# Altium footprint library 贴片元器件.PCBLIB: 208 footprints (part 2 of 13)
Each footprint in its own frame and in the unit in brackets; x right, y up, seen from the top. Pads: shape width x height; smd on the part's side, far side on the other; paste and mask are expansions set on the pad; w line width, h text height; cw(c..) or ccw(c..) is an arc to the next point about the centre after c.
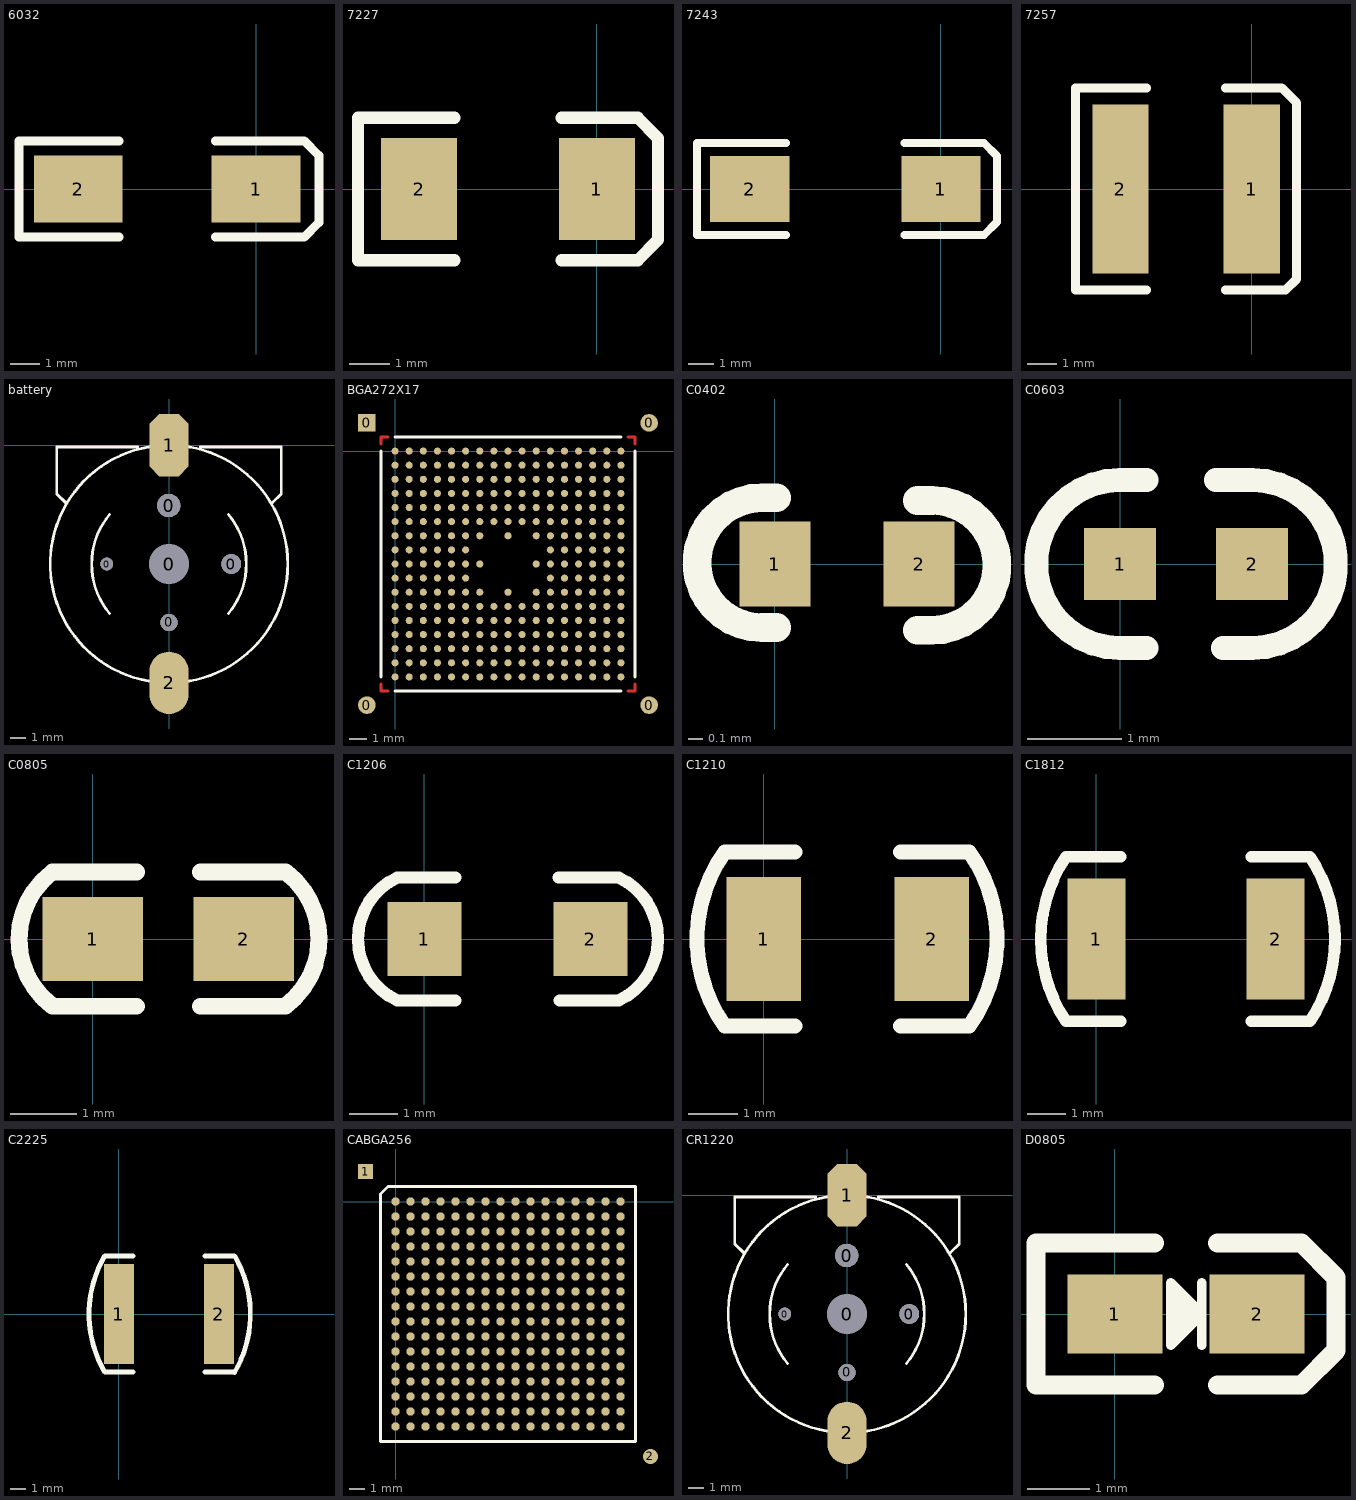
[diagram p1: the footprints below, top view; thin cyan lines are the x and y axes]

## 6032 [mil]
pads (2):
  rect 120x90 smd: 1(0,0) 2(-240,0)
TopOverlay:
  lines w12: -185,-65 -320,-65 -320,65 -185,65 ; -55,-65 65,-65 85,-45 85,45 65,65 -55,65

## 7227 [mm]
pads (2):
  rect 1.905x2.54 smd: 1(0,0) 2(-4.445,0)
TopOverlay:
  lines w0.305: -3.556,-1.778 -5.969,-1.778 -5.969,1.778 -3.556,1.778 ; -0.889,-1.778 1.016,-1.778 1.524,-1.27 1.524,1.27 1.016,1.778 -0.889,1.778

## 7243 [mil]
pads (2):
  rect 120x100 smd: 1(0,0) 2(-290,0)
TopOverlay:
  lines w12: -235,-70 -370,-70 -370,70 -235,70 ; -55,-70 65,-70 85,-50 85,50 65,70 -55,70

## 7257 [mm]
pads (2):
  rect 1.905x5.715 smd: 1(0,0) 2(-4.445,0)
TopOverlay:
  lines w0.305: -3.556,-3.429 -5.969,-3.429 -5.969,3.429 -3.556,3.429 ; -0.889,-3.429 1.143,-3.429 1.524,-3.048 1.524,2.921 1.016,3.429 -0.889,3.429

## battery [mm]
pads (7):
  round 0.813 hole 0.813: 0(-3.988,-7.62)
  round 1.5 hole 1.5: 0(-0.025,-3.87)
  round 1.1 hole 1.1: 0(0,-11.37)
  round 2.54 hole 2.54: 0(0,-7.62)
  round 1.27 hole 1.27: 0(3.988,-7.62)
  oct 2.5x4 smd: 1(0,0)
  oval 2.5x4 smd: 2(0,-15.24)
TopOverlay:
  lines w0.178: -6.625,-3.695 -7.2,-3.12 -7.2,-0.12 -2,-0.12 ; -3.812,-10.792 cw(c0,-7.62) -3.81,-4.445 ; -0.833,-15.194 cw(c0,-7.62) -0.833,-0.046 ; 0.833,-15.194 ccw(c0,-7.62) 7.62,-7.62 ccw(c0,-7.62) 0.833,-0.046 ; 2,-0.12 7.2,-0.12 7.2,-3.12 6.6,-3.72 ; 3.812,-10.792 ccw(c0,-7.62) 3.815,-4.451

## BGA272X17 [mm]
pads (276):
  rect 1x1 smd: 0(-1.6,1.6)
  round 1 smd: 0(-1.6,-14.4) 0(14.4,1.6) 0(14.4,-14.4)
  round 0.4 smd: A1(0,0) A2(0.8,0) A3(1.6,0) A4(2.4,0) A5(3.2,0) A6(4,0) A7(4.8,0) A8(5.6,0) A9(6.4,0) A10(7.2,0) A11(8,0) A12(8.8,0) A13(9.6,0) A14(10.4,0) A15(11.2,0) A16(12,0) A17(12.8,0) B1(0,-0.8) B2(0.8,-0.8) B3(1.6,-0.8) B4(2.4,-0.8) B5(3.2,-0.8) B6(4,-0.8) B7(4.8,-0.8) B8(5.6,-0.8) B9(6.4,-0.8) B10(7.2,-0.8) B11(8,-0.8) B12(8.8,-0.8) B13(9.6,-0.8) B14(10.4,-0.8) B15(11.2,-0.8) B16(12,-0.8) B17(12.8,-0.8) C1(0,-1.6) C2(0.8,-1.6) C3(1.6,-1.6) C4(2.4,-1.6) C5(3.2,-1.6) C6(4,-1.6) C7(4.8,-1.6) C8(5.6,-1.6) C9(6.4,-1.6) C10(7.2,-1.6) C11(8,-1.6) C12(8.8,-1.6) C13(9.6,-1.6) C14(10.4,-1.6) C15(11.2,-1.6) C16(12,-1.6) C17(12.8,-1.6) D1(0,-2.4) D2(0.8,-2.4) D3(1.6,-2.4) D4(2.4,-2.4) D5(3.2,-2.4) D6(4,-2.4) D7(4.8,-2.4) D8(5.6,-2.4) D9(6.4,-2.4) D10(7.2,-2.4) D11(8,-2.4) D12(8.8,-2.4) D13(9.6,-2.4) D14(10.4,-2.4) D15(11.2,-2.4) D16(12,-2.4) D17(12.8,-2.4) E1(0,-3.2) E2(0.8,-3.2) E3(1.6,-3.2) E4(2.4,-3.2) E5(3.2,-3.2) E6(4,-3.2) E7(4.8,-3.2) E8(5.6,-3.2) E9(6.4,-3.2) E10(7.2,-3.2) E11(8,-3.2) E12(8.8,-3.2) E13(9.6,-3.2) E14(10.4,-3.2) E15(11.2,-3.2) E16(12,-3.2) E17(12.8,-3.2) F1(0,-4) F2(0.8,-4) F3(1.6,-4) F4(2.4,-4) F5(3.2,-4) F6(4,-4) F7(4.8,-4) F8(5.6,-4) F9(6.4,-4) F10(7.2,-4) F11(8,-4) F12(8.8,-4) F13(9.6,-4) F14(10.4,-4) F15(11.2,-4) F16(12,-4) F17(12.8,-4) G1(0,-4.8) G2(0.8,-4.8) G3(1.6,-4.8) G4(2.4,-4.8) G5(3.2,-4.8) G6(4,-4.8) G7(4.8,-4.8) G9(6.4,-4.8) G11(8,-4.8) G12(8.8,-4.8) G13(9.6,-4.8) G14(10.4,-4.8) G15(11.2,-4.8) G16(12,-4.8) G17(12.8,-4.8) H1(0,-5.6) H2(0.8,-5.6) H3(1.6,-5.6) H4(2.4,-5.6) H5(3.2,-5.6) H6(4,-5.6) H12(8.8,-5.6) H13(9.6,-5.6) H14(10.4,-5.6) H15(11.2,-5.6) H16(12,-5.6) H17(12.8,-5.6) J1(0,-6.4) J2(0.8,-6.4) J3(1.6,-6.4) J4(2.4,-6.4) J5(3.2,-6.4) J6(4,-6.4) J7(4.8,-6.4) J11(8,-6.4) J12(8.8,-6.4) J13(9.6,-6.4) J14(10.4,-6.4) J15(11.2,-6.4) J16(12,-6.4) J17(12.8,-6.4) K1(0,-7.2) K2(0.8,-7.2) K3(1.6,-7.2) K4(2.4,-7.2) K5(3.2,-7.2) K6(4,-7.2) K12(8.8,-7.2) K13(9.6,-7.2) K14(10.4,-7.2) K15(11.2,-7.2) K16(12,-7.2) K17(12.8,-7.2) L1(0,-8) L2(0.8,-8) L3(1.6,-8) L4(2.4,-8) L5(3.2,-8) L6(4,-8) L7(4.8,-8) L9(6.4,-8) L11(8,-8) L12(8.8,-8) L13(9.6,-8) L14(10.4,-8) L15(11.2,-8) L16(12,-8) L17(12.8,-8) M1(0,-8.8) M2(0.8,-8.8) M3(1.6,-8.8) M4(2.4,-8.8) M5(3.2,-8.8) M6(4,-8.8) M7(4.8,-8.8) M8(5.6,-8.8) M9(6.4,-8.8) M10(7.2,-8.8) M11(8,-8.8) M12(8.8,-8.8) M13(9.6,-8.8) M14(10.4,-8.8) M15(11.2,-8.8) M16(12,-8.8) M17(12.8,-8.8) N1(0,-9.6) N2(0.8,-9.6) N3(1.6,-9.6) N4(2.4,-9.6) N5(3.2,-9.6) N6(4,-9.6) N7(4.8,-9.6) N8(5.6,-9.6) N9(6.4,-9.6) N10(7.2,-9.6) N11(8,-9.6) N12(8.8,-9.6) N13(9.6,-9.6) N14(10.4,-9.6) N15(11.2,-9.6) N16(12,-9.6) N17(12.8,-9.6) P1(0,-10.4) P2(0.8,-10.4) P3(1.6,-10.4) P4(2.4,-10.4) P5(3.2,-10.4) P6(4,-10.4) P7(4.8,-10.4) P8(5.6,-10.4) P9(6.4,-10.4) P10(7.2,-10.4) P11(8,-10.4) P12(8.8,-10.4) P13(9.6,-10.4) P14(10.4,-10.4) P15(11.2,-10.4) P16(12,-10.4) P17(12.8,-10.4) R1(0,-11.2) R2(0.8,-11.2) R3(1.6,-11.2) R4(2.4,-11.2) R5(3.2,-11.2) R6(4,-11.2) R7(4.8,-11.2) R8(5.6,-11.2) R9(6.4,-11.2) R10(7.2,-11.2) R11(8,-11.2) R12(8.8,-11.2) R13(9.6,-11.2) R14(10.4,-11.2) R15(11.2,-11.2) R16(12,-11.2) R17(12.8,-11.2) T1(0,-12) T2(0.8,-12) T3(1.6,-12) T4(2.4,-12) T5(3.2,-12) T6(4,-12) T7(4.8,-12) T8(5.6,-12) T9(6.4,-12) T10(7.2,-12) T11(8,-12) T12(8.8,-12) T13(9.6,-12) T14(10.4,-12) T15(11.2,-12) T16(12,-12) T17(12.8,-12) U1(0,-12.8) U2(0.8,-12.8) U3(1.6,-12.8) U4(2.4,-12.8) U5(3.2,-12.8) U6(4,-12.8) U7(4.8,-12.8) U8(5.6,-12.8) U9(6.4,-12.8) U10(7.2,-12.8) U11(8,-12.8) U12(8.8,-12.8) U13(9.6,-12.8) U14(10.4,-12.8) U15(11.2,-12.8) U16(12,-12.8) U17(12.8,-12.8)
TopLayer:
  lines w0.178: -0.8,-13.2 -0.8,-13.6 -0.4,-13.6 ; -0.8,0.4 -0.8,0.8 -0.4,0.8 ; 13.2,-13.6 13.6,-13.6 13.6,-13.2 ; 13.2,0.8 13.6,0.8 13.6,0.4
TopOverlay:
  lines w0.178: -0.8,-12.8 -0.8,0 ; 0,-13.6 12.8,-13.6 ; 0,0.8 12.8,0.8 ; 13.6,-12.8 13.6,0

## C0402 [mm]
pads (2):
  rect 0.5x0.6 smd: 1(0,0) 2(1.016,0)
TopOverlay:
  lines w0.203: 0.011,-0.448 -0.091,-0.448 cw(c-0.091,0.009) -0.091,0.466 0.011,0.466 ; 1.005,-0.466 1.107,-0.466 ccw(c1.107,-0.009) 1.107,0.448 1.005,0.448

## C0603 [mil]
pads (2):
  rect 30x30 smd: 1(0,0) 2(55,0)
TopOverlay:
  lines w10: 11,-35 0,-35 cw(c0,0) 0,35 11,35 ; 40,35 55,35 cw(c55,0) 55,-35 43,-35

## C0805 [mil]
pads (2):
  rect 60x50 smd: 1(0,0) 2(90,0)
TopOverlay:
  lines w10: -24.63,39.52 ccw(c6,0) -24.16,-39.88 ; -24,-40 26,-40 ; -24,40 26,40 ; 64,-40 115,-40 ; 64,40 115,40 cw(c84.83,0.13) 114.83,-39.87

## C1206 [mil]
pads (2):
  rect 60x60 smd: 1(0,0) 2(135,0)
TopOverlay:
  lines w10: 25,-50 -21.98,-49.97 cw(c1,0) -21.98,49.97 25,50 ; 109,50 157.99,49.97 cw(c135,0) 157.98,-49.97 110,-50

## C1210 [mil]
pads (2):
  rect 60x100 smd: 1(0,0) 2(135,0)
TopOverlay:
  lines w12: 25,-70 -31.5,-70 cw(c66.93,0) -31.5,70 25,70 ; 110,-70 165.35,-70 ccw(c66.93,0) 165.35,70 110,70

## C1812 [mil]
pads (2):
  rect 60x125 smd: 1(0,0) 2(185,0)
TopOverlay:
  lines w12: 25,-85 -31.5,-85 cw(c94.49,0) -31.5,85 25,85 ; 160,-85 220.47,-85 ccw(c94.49,0) 220.47,85 160,85

## C2225 [mm]
pads (2):
  rect 1.905x6.35 smd: 1(0,0) 2(6.35,0)
TopOverlay:
  lines w0.305: 0.889,-3.683 -0.903,-3.685 cw(c5.4,0) -0.903,3.685 0.889,3.683 ; 5.461,-3.683 7.3,-3.683 ; 5.461,3.683 7.3,3.683 ; 7.34,-3.706 ccw(c1,0) 7.365,3.663

## CABGA256 [mil]
pads (258):
  rect 39.37x39.37 smd: 1(-78.74,78.74)
  round 39.37 smd: 2(669.29,-669.29)
  round 22 smd: A1(0,0) A2(39.37,0) A3(78.74,0) A4(118.11,0) A5(157.48,0) A6(196.85,0) A7(236.22,0) A8(275.59,0) A9(314.96,0) A10(354.33,0) A11(393.7,0) A12(433.07,0) A13(472.44,0) A14(511.81,0) A15(551.18,0) A16(590.55,0) B1(0,-39.37) B2(39.37,-39.37) B3(78.74,-39.37) B4(118.11,-39.37) B5(157.48,-39.37) B6(196.85,-39.37) B7(236.22,-39.37) B8(275.59,-39.37) B9(314.96,-39.37) B10(354.33,-39.37) B11(393.7,-39.37) B12(433.07,-39.37) B13(472.44,-39.37) B14(511.81,-39.37) B15(551.18,-39.37) B16(590.55,-39.37) C1(0,-78.74) C2(39.37,-78.74) C3(78.74,-78.74) C4(118.11,-78.74) C5(157.48,-78.74) C6(196.85,-78.74) C7(236.22,-78.74) C8(275.59,-78.74) C9(314.96,-78.74) C10(354.33,-78.74) C11(393.7,-78.74) C12(433.07,-78.74) C13(472.44,-78.74) C14(511.81,-78.74) C15(551.18,-78.74) C16(590.55,-78.74) D1(0,-118.11) D2(39.37,-118.11) D3(78.74,-118.11) D4(118.11,-118.11) D5(157.48,-118.11) D6(196.85,-118.11) D7(236.22,-118.11) D8(275.59,-118.11) D9(314.96,-118.11) D10(354.33,-118.11) D11(393.7,-118.11) D12(433.07,-118.11) D13(472.44,-118.11) D14(511.81,-118.11) D15(551.18,-118.11) D16(590.55,-118.11) E1(0,-157.48) E2(39.37,-157.48) E3(78.74,-157.48) E4(118.11,-157.48) E5(157.48,-157.48) E6(196.85,-157.48) E7(236.22,-157.48) E8(275.59,-157.48) E9(314.96,-157.48) E10(354.33,-157.48) E11(393.7,-157.48) E12(433.07,-157.48) E13(472.44,-157.48) E14(511.81,-157.48) E15(551.18,-157.48) E16(590.55,-157.48) F1(0,-196.85) F2(39.37,-196.85) F3(78.74,-196.85) F4(118.11,-196.85) F5(157.48,-196.85) F6(196.85,-196.85) F7(236.22,-196.85) F8(275.59,-196.85) F9(314.96,-196.85) F10(354.33,-196.85) F11(393.7,-196.85) F12(433.07,-196.85) F13(472.44,-196.85) F14(511.81,-196.85) F15(551.18,-196.85) F16(590.55,-196.85) G1(0,-236.22) G2(39.37,-236.22) G3(78.74,-236.22) G4(118.11,-236.22) G5(157.48,-236.22) G6(196.85,-236.22) G7(236.22,-236.22) G8(275.59,-236.22) G9(314.96,-236.22) G10(354.33,-236.22) G11(393.7,-236.22) G12(433.07,-236.22) G13(472.44,-236.22) G14(511.81,-236.22) G15(551.18,-236.22) G16(590.55,-236.22) H1(0,-275.59) H2(39.37,-275.59) H3(78.74,-275.59) H4(118.11,-275.59) H5(157.48,-275.59) H6(196.85,-275.59) H7(236.22,-275.59) H8(275.59,-275.59) H9(314.96,-275.59) H10(354.33,-275.59) H11(393.7,-275.59) H12(433.07,-275.59) H13(472.44,-275.59) H14(511.81,-275.59) H15(551.18,-275.59) H16(590.55,-275.59) J1(0,-314.96) J2(39.37,-314.96) J3(78.74,-314.96) J4(118.11,-314.96) J5(157.48,-314.96) J6(196.85,-314.96) J7(236.22,-314.96) J8(275.59,-314.96) J9(314.96,-314.96) J10(354.33,-314.96) J11(393.7,-314.96) J12(433.07,-314.96) J13(472.44,-314.96) J14(511.81,-314.96) J15(551.18,-314.96) J16(590.55,-314.96) K1(0,-354.33) K2(39.37,-354.33) K3(78.74,-354.33) K4(118.11,-354.33) K5(157.48,-354.33) K6(196.85,-354.33) K7(236.22,-354.33) K8(275.59,-354.33) K9(314.96,-354.33) K10(354.33,-354.33) K11(393.7,-354.33) K12(433.07,-354.33) K13(472.44,-354.33) K14(511.81,-354.33) K15(551.18,-354.33) K16(590.55,-354.33) L1(0,-393.7) L2(39.37,-393.7) L3(78.74,-393.7) L4(118.11,-393.7) L5(157.48,-393.7) L6(196.85,-393.7) L7(236.22,-393.7) L8(275.59,-393.7) L9(314.96,-393.7) L10(354.33,-393.7) L11(393.7,-393.7) L12(433.07,-393.7) L13(472.44,-393.7) L14(511.81,-393.7) L15(551.18,-393.7) L16(590.55,-393.7) M1(0,-433.07) M2(39.37,-433.07) M3(78.74,-433.07) M4(118.11,-433.07) M5(157.48,-433.07) M6(196.85,-433.07) M7(236.22,-433.07) M8(275.59,-433.07) M9(314.96,-433.07) M10(354.33,-433.07) M11(393.7,-433.07) M12(433.07,-433.07) M13(472.44,-433.07) M14(511.81,-433.07) M15(551.18,-433.07) M16(590.55,-433.07) N1(0,-472.44) N2(39.37,-472.44) N3(78.74,-472.44) N4(118.11,-472.44) N5(157.48,-472.44) N6(196.85,-472.44) N7(236.22,-472.44) N8(275.59,-472.44) N9(314.96,-472.44) N10(354.33,-472.44) N11(393.7,-472.44) N12(433.07,-472.44) N13(472.44,-472.44) N14(511.81,-472.44) N15(551.18,-472.44) N16(590.55,-472.44) P1(0,-511.81) P2(39.37,-511.81) P3(78.74,-511.81) P4(118.11,-511.81) P5(157.48,-511.81) P6(196.85,-511.81) P7(236.22,-511.81) P8(275.59,-511.81) P9(314.96,-511.81) P10(354.33,-511.81) P11(393.7,-511.81) P12(433.07,-511.81) P13(472.44,-511.81) P14(511.81,-511.81) P15(551.18,-511.81) P16(590.55,-511.81) R1(0,-551.18) R2(39.37,-551.18) R3(78.74,-551.18) R4(118.11,-551.18) R5(157.48,-551.18) R6(196.85,-551.18) R7(236.22,-551.18) R8(275.59,-551.18) R9(314.96,-551.18) R10(354.33,-551.18) R11(393.7,-551.18) R12(433.07,-551.18) R13(472.44,-551.18) R14(511.81,-551.18) R15(551.18,-551.18) R16(590.55,-551.18) T1(0,-590.55) T2(39.37,-590.55) T3(78.74,-590.55) T4(118.11,-590.55) T5(157.48,-590.55) T6(196.85,-590.55) T7(236.22,-590.55) T8(275.59,-590.55) T9(314.96,-590.55) T10(354.33,-590.55) T11(393.7,-590.55) T12(433.07,-590.55) T13(472.44,-590.55) T14(511.81,-590.55) T15(551.18,-590.55) T16(590.55,-590.55)
TopOverlay:
  lines w7.87: -39.37,-629.92 -39.37,19.68 -19.68,39.37 629.92,39.37 629.92,-629.92 -39.37,-629.92

## CR1220 [mm]
pads (7):
  round 0.813 hole 0.813: 0(-3.988,-7.62)
  round 1.5 hole 1.5: 0(-0.025,-3.87)
  round 1.1 hole 1.1: 0(0,-11.37)
  round 2.54 hole 2.54: 0(0,-7.62)
  round 1.27 hole 1.27: 0(3.988,-7.62)
  oct 2.5x4 smd: 1(0,0)
  oval 2.5x4 smd: 2(0,-15.24)
TopOverlay:
  lines w0.178: -6.625,-3.695 -7.2,-3.12 -7.2,-0.12 -2,-0.12 ; -3.812,-10.792 cw(c0,-7.62) -3.81,-4.445 ; -0.833,-15.194 cw(c0,-7.62) -0.833,-0.046 ; 0.833,-15.194 ccw(c0,-7.62) 7.62,-7.62 ccw(c0,-7.62) 0.833,-0.046 ; 2,-0.12 7.2,-0.12 7.2,-3.12 6.6,-3.72 ; 3.812,-10.792 ccw(c0,-7.62) 3.815,-4.451

## D0805 [mil]
pads (2):
  rect 60x50 smd: 1(0,0) 2(90,0)
TopOverlay:
  lines w6: 35.43,-11.81 47.24,0 35.43,11.81 ; 35.43,0 55.12,0 ; 39.15,-15.97 39.15,15.62 ; 55.12,-19.68 55.12,19.68 ; 55.12,0 35.43,19.68 35.43,-19.68 55.12,0
  lines w12: 25,-45 -50,-45 -50,45 25,45 ; 65,-45 118.11,-45 140,-23.11 140,23.11 118.11,45 65,45